# Altium integrated library Xilinx Virtex-E.IntLib: 288 symbols (part 51 of 73)
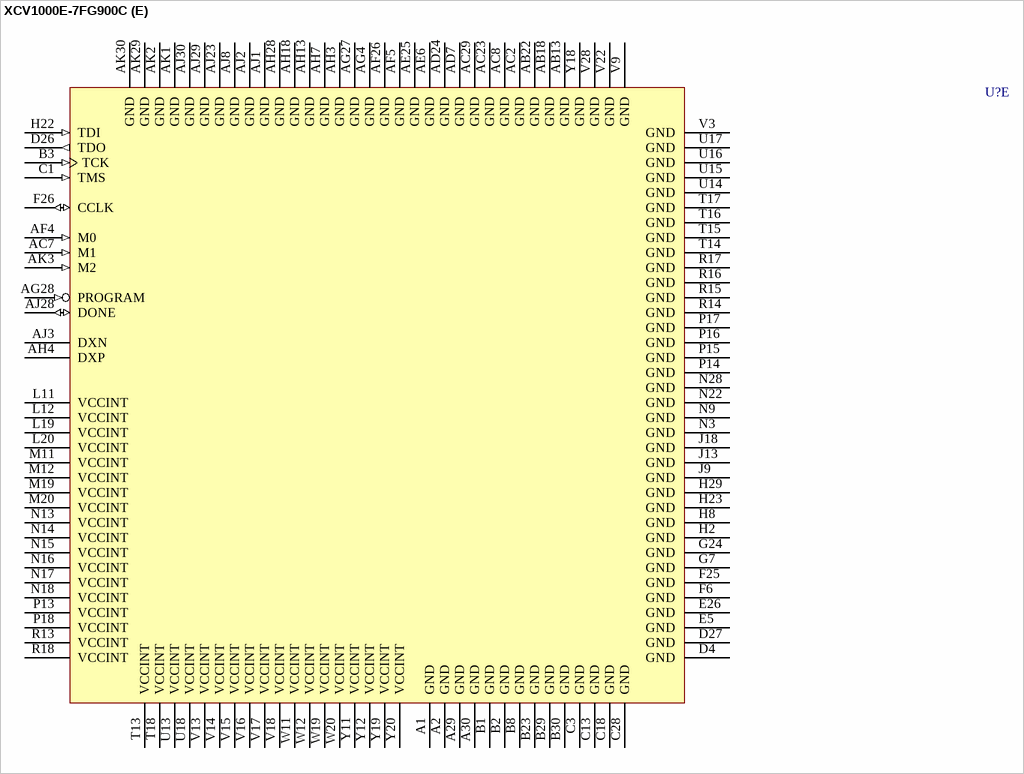
[diagram p439: symbol XCV1000E-7FG900C]

## XCV1000E-7FG900C
designator U?
Virtex-E 1.8V FPGA, 900-Ball FBGA, Commercial Grade; PackageDocument: ver1.1, Apr-2001; Note: Solder pads are defined by the copper, i.e. non-soldermask defined (NSMD); Published: 19-Sep-2001; LatestRevisionDate: 17-Jul-2002; LatestRevisionNote: Re-released for DXP Platform.; DatasheetDocument: Mar-2003; PackageReference: FG900; Publisher: Altium Limited; Code_IPC: PBGA 31X31 FE900
footprint FG900 (900-Ball Fine Pitch Ball Grid Array (FG900))
3D model XCV1000E-FG900 (900-Ball Fine Pitch Ball Grid Array (FG900))
signal-integrity model XCV1000E_FG900 (Virtex-E)
part A pins: A3 IO_VREF_L2N_Y (io), A4 IO_L4N_YY (io), A5 IO_L6N_Y (io), A6 IO_VREF_L9N_YY (io), A7 IO (io), A8 IO_VREF_L13N_YY (io), A9 IO_VREF_L16P (io), A10 IO_VREF_L23N_YY (io), A11 IO_L24P_Y (io), A12 IO_L26N_YY (io), A13 IO (io), A14 IO_L30N_YY (io), A15 IO_LVDS_DLL_L34N (io), A16 IO_L36N_YY (io), A17 IO_L39N_Y (io), A18 IO_VREF_L41P_YY (io), A19 IO_L42P_YY (io), A20 IO_L47P_Y (io), A21 IO_L51P_YY (io), A22 IO_VREF_L52P_YY (io), A23 IO_L57P_Y (io), A24 IO_L58N_Y (io), A25 IO (io), A26 IO_L62P_Y (io), A27 IO_L67N_Y (io), A28 IO_L68P_YY (io), B4 IO_L3N_Y (io), B5 IO_L5P_YY (io), B6 VCCO_0 (power), B7 IO_L10P_Y (io), B9 IO_L15N_YY (io), B10 IO_L17P (io), B11 IO_L21N_Y (io), B12 IO_L25P_Y (io), B13 IO_L27P_YY (io), B14 IO_L29P_Y (io), B15 IO_L32N (io), B16 IO_L35N_YY (io), B17 IO (io), B18 IO (io), B19 IO_L43N_Y (io), B20 IO_L46N_YY (io), B21 IO_L50N_YY (io), B22 IO_L53P_YY (io), B24 IO_VREF_L59P_YY (io), B25 VCCO_1 (power), B26 IO_L63N_YY (io), B27 IO_L66N_Y (io), B28 IO_L68N_YY (io), C4 IO_L0N_YY (io), C5 IO (io), C6 IO (io), C7 IO_L10N_Y (io), C8 IO_L11N_Y (io), C9 IO_L14P (io), C10 IO_L18P_YY (io), C11 IO_L22P_YY (io), C12 VCCO_0 (power), C14 IO (io), C15 GCK3 (in), C16 IO_L37N_YY (io), C17 IO_L40P_Y (io), C19 VCCO_1 (power), C20 IO_L48P_Y (io), C21 IO_L52N_YY (io), C22 IO_VREF_L55P_YY (io), C23 IO (io), C24 IO_L59N_YY (io), C25 IO_L61P_Y (io), C26 IO_L65N_Y (io), C27 IO_CS_L69P_YY (io), D5 IO_L1N_Y (io), D6 IO_L4P_YY (io), D7 IO_L7N_Y (io), D8 NC, D9 IO_L14N (io), D10 IO (io), D11 IO_L20P_Y (io), D12 IO_L23P_YY (io), D13 IO (io), D14 IO_L29N_Y (io), D15 IO_L33P_YY (io), D16 IO (io), D17 NC, D18 IO_L42N_YY (io), D19 IO_L44N_Y (io), D20 IO_L47N_Y (io), D21 IO_L50P_YY (io), D22 IO_L54P_YY (io), D23 IO (io), D24 IO_L62N_Y (io), D25 IO_L64N_YY (io), E6 IO (io), E7 IO_VREF_L5N_YY (io), E8 IO_L8P_YY (io), E9 NC, E10 IO_L16N (io), E11 IO_L20N_Y (io), E12 IO_L24N_Y (io), E13 IO_L28P_Y (io), E14 NC, E15 GCK2 (in), E16 IO_LVDS_DLL_L34P (io), E17 IO_L39P_Y (io), E18 IO_L41N_YY (io), E19 IO (io), E20 IO_L49P_Y (io), E21 IO_L54N_YY (io), E22 IO_L56P_YY (io), E23 IO_L61N_Y (io), E24 NC, F7 IO_L0P_YY (io), F8 IO_L6P_Y (io), F9 IO (io), F10 IO_L12P_YY (io), F11 IO_L19P_Y (io), F12 IO_L22N_YY (io), F13 IO_VREF_L27N_YY (io), F14 NC, F15 IO_L33N_YY (io), F16 IO_L35P_YY (io), F17 IO_L40N_Y (io), F18 IO_L45N_YY (io), F19 IO_VREF_L45P_YY (io), F20 IO_L51N_YY (io), F21 IO_L55N_YY (io), F22 IO (io), F23 IO_L65P_Y (io), F24 IO_L67P_Y (io), G8 IO_L1P_Y (io), G9 IO_L8N_YY (io), G10 IO_L12N_YY (io), G11 IO_L17N (io), G12 IO_L21P_Y (io), G13 IO_L25N_Y (io), G14 IO_L28N_Y (io), G15 IO (io), G16 IO_L38P_YY (io), G17 NC, G18 IO_L43P_Y (io), G19 IO_L48N_Y (io), G20 IO (io), G21 IO_L57N_Y (io), G22 IO_L60P_YY (io), G23 IO_VREF_L66P_Y (io), H9 IO_L2P_Y (io), H10 IO_L11P_Y (io), H11 IO_L13P_YY (io), H12 IO_L18N_YY (io), H13 IO_L19N_Y (io), H14 VCCO_0 (power), H15 IO_L32P (io), H16 IO_L36P_YY (io), H17 VCCO_1 (power), H18 IO_L44P_Y (io), H19 IO_L53N_YY (io), H20 IO_L56N_YY (io), H21 IO_L60N_YY (io), J10 IO_L3P_Y (io), J11 IO_L9P_YY (io), J12 IO_L15P_YY (io), J14 IO_L30P_YY (io), J15 IO_L31P_YY (io), J16 IO (io), J17 IO (io), J19 NC, J20 NC, J21 IO_L64P_YY (io), K11 NC, K12 IO (io), K13 IO_L26P_YY (io), K14 IO_VREF_L31N_YY (io), K15 IO_VREF_L37P_YY (io), K16 IO_L38N_YY (io), K17 IO_L46P_YY (io), K18 IO_L49N_Y (io), K19 IO_L58P_Y (io), K20 IO_VREF_L63P_YY (io), K21 IO_WRITE_L69N_YY (io), L13 IO (io), L14 VCCO_0 (power), L15 VCCO_0 (power), L16 VCCO_1 (power), L17 VCCO_1 (power), L18 IO (io), M13 VCCO_0 (power), M14 VCCO_0 (power), M15 VCCO_0 (power), M16 VCCO_1 (power), M17 VCCO_1 (power), M18 VCCO_1 (power), N11 IO_L7P_Y (io)
part B pins: AA22 IO_INIT_L141N_YY (io), AA23 IO (io), AA24 IO_L129N (io), AA25 IO_L128N_YY (io), AA26 IO (io), AA27 IO_L125N_YY (io), AA28 IO_VREF_L124N_YY (io), AA29 IO_L121P (io), AA30 IO_L120P_YY (io), AB23 IO_L136P_YY (io), AB24 IO_VREF_L135N (io), AB25 IO_L132N (io), AB26 IO_L130P_YY (io), AB27 IO (io), AB28 IO_VREF_L127N_YY (io), AB29 IO (io), AB30 IO_D5_L123N_YY (io), AC24 IO_L139N (io), AC25 IO_L137N_Y (io), AC26 IO_L133P_YY (io), AC27 IO_VREF_L131N_YY (io), AC28 NC, AC30 IO_L128P_YY (io), AD25 IO_L140N (io), AD26 IO (io), AD27 IO_L134P_YY (io), AD28 IO_L132P (io), AD29 NC, AD30 IO_L130N_YY (io), AE26 IO_L138P_YY (io), AE27 NC, AE28 IO_L136N_YY (io), AE29 VCCO_3 (power), AE30 IO_L133N_YY (io), AF28 IO_L140P (io), AF29 IO_L135P (io), AF30 IO_L134N_YY (io), AG29 IO_VREF_L138N_YY (io), AG30 IO_L137P_Y (io), AH29 IO_D7_L141P_YY (io), AH30 IO_L139P (io), C29 IO_L71P (io), C30 IO_L73N_YY (io), D28 IO_L71N (io), D29 NC, D30 IO_L75P_YY (io), E25 IO_L72N_Y (io), E27 IO_DIN_D0_L70N_YY (io), E28 IO_VREF_L73P_YY (io), E29 IO_L78N_YY (io), E30 IO_L77N_YY (io), F27 IO_L74N_Y (io), F28 IO_L76N_Y (io), F29 VCCO_2 (power), F30 IO_VREF_L80P_YY (io), G25 IO_L72P_Y (io), G26 IO (io), G27 IO_L78P_YY (io), G28 IO_L77P_YY (io), G29 IO_L81N_YY (io), G30 IO_L82P (io), H24 IO (io), H25 IO (io), H26 IO_L79N (io), H27 IO_L81P_YY (io), H28 NC, H30 IO_VREF_L84P_YY (io), J22 IO_DOUT_BUSY_L70P_YY (io), J23 IO_L75N_YY (io), J24 IO_L83P_YY (io), J25 IO (io), J26 IO_L83N_YY (io), J27 NC, J28 IO_L85N_YY (io), J29 IO_L86P_YY (io), J30 IO_VREF_L87N_YY (io), K22 IO_L74P_Y (io), K23 IO_L79P (io), K24 IO_L86N_YY (io), K25 IO_L90N (io), K26 IO_L85P_YY (io), K27 IO_L87P_YY (io), K28 IO_L89P_YY (io), K29 IO_D2_L88N (io), K30 IO (io), L21 IO_VREF_L76P_Y (io), L22 IO_L80N_YY (io), L23 IO_L84N_YY (io), L24 IO_L91P_YY (io), L25 IO_L89N_YY (io), L26 IO_L93P_YY (io), L27 IO_L91N_YY (io), L28 IO_L93N_YY (io), L29 IO_L92P_Y (io), L30 IO_VREF_L94P (io), M21 IO_L82N (io), M22 IO_D1_L88P (io), M23 IO_L92N_Y (io), M24 IO (io), M25 IO (io), M26 IO_L95P_YY (io), M27 IO_L94N (io), M28 VCCO_2 (power), M29 IO_L95N_YY (io), M30 IO_L96N_YY (io), N19 VCCO_2 (power), N20 IO (io), N21 IO_L90P (io), N23 IO (io), N24 IO_L100N (io), N25 IO_L97P (io), N26 IO_L99P_YY (io), N27 IO_L97N (io), N29 IO_L96P_YY (io), N30 IO_VREF_L98P_YY (io), P19 VCCO_2 (power), P20 VCCO_2 (power), P21 IO_D3_L98N_YY (io), P22 IO_L101P_YY (io), P23 VCCO_2 (power), P24 IO_L105P_YY (io), P25 IO_VREF_L102P_YY (io), P26 NC, P27 NC, P28 IO_L99N_YY (io), P29 IO_L100P (io), P30 IO (io), R19 VCCO_2 (power), R20 VCCO_2 (power), R21 IO_L103P_YY (io), R22 IO_L107P_YY (io), R23 IO_L108P_YY (io), R24 IO_L106P (io), R25 IO_L104P_YY (io), R26 IO_L101N_YY (io), R27 IO_L105N_YY (io), R28 IO_L103N_YY (io), R29 IO_L102N_YY (io), R30 IO (io), T19 VCCO_3 (power), T20 VCCO_3 (power), T21 IO_L109P_YY (io), T22 IO (io), T23 IO_L111P (io), T24 IO (io), T25 IO_VREF_L109N_YY (io), T26 IO (io), T27 IO_L107N_YY (io), T28 IO_L108N_YY (io), T29 IO (io), T30 IO_L104N_YY (io), U19 VCCO_3 (power), U20 VCCO_3 (power), U21 IO_L115P_YY (io), U22 IO_L114N (io), U23 VCCO_3 (power), U24 IO_D4_L113P_YY (io), U25 IO_L112P_YY (io), U26 NC, U27 IO_L111N (io), U28 IO_L110P_YY (io), U29 IO_L106N (io), U30 IO_L110N_YY (io), V19 VCCO_3 (power), V20 IO_L121N (io), V21 IO_D6_L124P_YY (io), V23 IO (io), V24 IO_L119P_Y (io), V25 IO (io), V26 IO_L116P_YY (io), V27 IO_L112N_YY (io), V29 IO_VREF_L113N_YY (io), V30 NC, W21 IO_L129P (io), W22 IO_L126P_YY (io), W23 IO_L122N (io), W24 IO_L120N_YY (io), W25 IO_L118P_YY (io), W26 IO_L117P (io), W27 IO_L116N_YY (io), W28 VCCO_3 (power), W29 IO_L115N_YY (io), W30 IO_L114P (io), Y21 IO (io), Y22 IO_L131P_YY (io), Y23 IO_L126N_YY (io), Y24 IO_L127P_YY (io), Y25 IO_L125P_YY (io), Y26 IO_L123P_YY (io), Y27 IO_L122P (io), Y28 IO_L119N_Y (io), Y29 IO_VREF_L117N (io), Y30 IO_L118N_YY (io)
part C pins: AA11 IO (io), AA12 IO_L188P_YY (io), AA13 IO_L187N (io), AA14 IO (io), AA15 IO_L180P_YY (io), AA16 IO_L169P_YY (io), AA17 IO_L169N_YY (io), AA18 IO_VREF_L159N (io), AA19 IO_L158P_YY (io), AA20 IO_L149P (io), AA21 IO_L147P_YY (io), AB10 IO_L207P_YY (io), AB11 IO_L200N (io), AB12 IO_L189P_YY (io), AB14 IO_L182P (io), AB15 IO_L179P_YY (io), AB16 IO_L170N_YY (io), AB17 IO_L167N (io), AB19 IO (io), AB20 IO_L153N (io), AB21 IO_VREF_L145P (io), AC9 IO_L209P (io), AC10 IO_L205N (io), AC11 IO_L201P (io), AC12 IO_VREF_L195N_YY (io), AC13 IO_L187P (io), AC14 VCCO_5 (power), AC15 IO_L178P_YY (io), AC16 IO (io), AC17 VCCO_4 (power), AC18 IO_L164P (io), AC19 IO (io), AC20 IO_L154P (io), AC21 IO_L150P (io), AC22 IO_L146P (io), AD8 IO_L208P (io), AD9 IO_L206P_YY (io), AD10 IO_L204N (io), AD11 IO_L196N_YY (io), AD12 IO_L194P_YY (io), AD13 IO_L185N_YY (io), AD14 IO (io), AD15 IO_L175P (io), AD16 IO_L172N (io), AD17 IO_L168N (io), AD18 IO (io), AD19 IO_L161N_YY (io), AD20 IO_L157N (io), AD21 IO (io), AD22 IO_L148N_YY (io), AD23 IO_L144P (io), AE7 NC, AE8 NC, AE9 IO_L197N_YY (io), AE10 IO (io), AE11 IO_L189N_YY (io), AE12 IO_L193P_YY (io), AE13 IO_L186P (io), AE14 IO_L184P_YY (io), AE15 IO (io), AE16 IO_L173P_YY (io), AE17 IO_L173N_YY (io), AE18 IO (io), AE19 IO_L165N_YY (io), AE20 IO_L162P (io), AE21 IO (io), AE22 IO_L155N_YY (io), AE23 IO_L153P (io), AE24 NC, AF6 IO (io), AF7 IO_VREF_L202N_YY (io), AF8 IO_L200P (io), AF9 IO_VREF_L198N_YY (io), AF10 IO (io), AF11 IO_L191N (io), AF12 IO_L186N (io), AF13 IO_L182N (io), AF14 IO_VREF_L180N_YY (io), AF15 IO_L179N_YY (io), AF16 IO_LVDS_DLL_L177P (io), AF17 NC, AF18 NC, AF19 IO_L164N (io), AF20 IO_L163N (io), AF21 IO_L158N_YY (io), AF22 IO_L155P_YY (io), AF23 IO_L152N_YY (io), AF24 IO_L150N (io), AF25 IO_L145N (io), AF27 IO_L142P_YY (io), AG3 IO_L211N_YY (io), AG5 IO_L210P (io), AG6 IO_VREF_L206N_YY (io), AG7 IO_L203P_YY (io), AG8 IO_L201N (io), AG9 IO (io), AG10 IO_L193N_YY (io), AG11 IO_L191P (io), AG12 IO (io), AG13 IO_VREF_L184N_YY (io), AG14 NC, AG15 IO_L178N_YY (io), AG16 IO_L176P_YY (io), AG17 IO_VREF_L174P_YY (io), AG18 IO_L171P (io), AG19 IO_L167P (io), AG20 IO_L163P (io), AG21 IO_L160P (io), AG22 IO_L156N_YY (io), AG23 IO_L154N (io), AG24 IO_L151P_YY (io), AG25 IO_L147N_YY (io), AG26 IO_L143P_YY (io), AH5 IO_L211P_YY (io), AH6 IO_L205P (io), AH8 IO (io), AH9 IO_L199P_YY (io), AH10 IO_L198P_YY (io), AH11 IO_L192P (io), AH12 VCCO_5 (power), AH14 IO_L183P (io), AH15 IO_L181P_YY (io), AH16 IO_LVDS_DLL_L177N (io), AH17 IO_L175N (io), AH19 VCCO_4 (power), AH20 IO_L166N_YY (io), AH21 IO_L161P_YY (io), AH22 IO_L159P (io), AH23 IO (io), AH24 NC, AH25 IO_L149N (io), AH26 IO_L146N (io), AH27 IO_L143N_YY (io), AJ4 IO_VREF_L209N (io), AJ5 IO_L207N_YY (io), AJ6 VCCO_5 (power), AJ7 IO_L204P (io), AJ9 IO_L197P_YY (io), AJ10 IO_L195P_YY (io), AJ11 IO_L192N (io), AJ12 IO_VREF_L188N_YY (io), AJ13 IO (io), AJ14 IO_L183N (io), AJ15 IO (io), AJ16 GCK0 (in), AJ17 IO_L174N_YY (io), AJ18 IO (io), AJ19 IO_L168P (io), AJ20 IO_L165P_YY (io), AJ21 IO_L162N (io), AJ22 IO_VREF_L156P_YY (io), AJ24 IO_VREF_L152P_YY (io), AJ25 VCCO_4 (power), AJ26 IO_VREF_L148P_YY (io), AJ27 IO_L144N (io), AK4 IO_L210N (io), AK5 IO_L208N (io), AK6 NC, AK7 IO_L203N_YY (io), AK8 IO_L202P_YY (io), AK9 IO_L199N_YY (io), AK10 IO_L196P_YY (io), AK11 IO_L194N_YY (io), AK12 IO_L190P (io), AK13 IO_L185P_YY (io), AK14 NC, AK15 IO_L181N_YY (io), AK16 GCK1 (in), AK17 IO_L176N_YY (io), AK18 IO (io), AK19 IO_L172P (io), AK20 IO_L171N (io), AK21 IO_VREF_L170P_YY (io), AK22 IO_VREF_L166P_YY (io), AK23 IO_L160N (io), AK24 IO_L157P (io), AK25 NC, AK26 IO_L151N_YY (io), AK27 IO (io), AK28 IO_L142N_YY (io), W13 VCCO_5 (power), W14 VCCO_5 (power), W15 VCCO_5 (power), W16 VCCO_4 (power), W17 VCCO_4 (power), W18 VCCO_4 (power), Y13 IO_L190N (io), Y14 VCCO_5 (power), Y15 VCCO_5 (power), Y16 VCCO_4 (power), Y17 VCCO_4 (power)
part D pins: AA1 IO_L234N_Y (io), AA2 IO_L231N_YY (io), AA3 IO_L230P (io), AA4 IO (io), AA5 IO_L227N_YY (io), AA6 IO_L232P (io), AA7 IO_L221P (io), AA8 IO_L221N (io), AA9 IO_VREF_L218N (io), AA10 IO_L217P_YY (io), AB1 IO_L228N_YY (io), AB2 IO_VREF_L240N_YY (io), AB3 IO_VREF_L226N_YY (io), AB4 IO_L225P_YY (io), AB5 NC, AB6 IO_L223N_YY (io), AB7 IO (io), AB8 IO_L216N_Y (io), AB9 IO_L214N (io), AC1 IO_VREF_L229P_YY (io), AC3 NC, AC4 IO_L223P_YY (io), AC5 IO (io), AC6 IO_L212P_YY (io), AD1 IO (io), AD2 IO_L219P_YY (io), AD3 IO_L220N_YY (io), AD4 IO_L218P (io), AD5 IO_L219N_YY (io), AD6 IO_L216P_Y (io), AE1 IO_L224N (io), AE2 VCCO_6 (power), AE3 IO_VREF_L215N_YY (io), AE4 IO_L214P (io), AE5 NC, AF1 IO_VREF_L222N_YY (io), AF2 IO_L220P_YY (io), AF3 IO_L212N_YY (io), AG1 IO_L217N_YY (io), AG2 IO_L213P (io), AH1 IO_L215P_YY (io), AH2 IO_L213N (io), C2 IO_VREF_L280P_YY (io), D1 IO_L279N_Y (io), D2 IO_L281N (io), D3 IO_L282N_YY (io), E1 IO_L275P_YY (io), E2 IO_L276P_YY (io), E3 IO (io), E4 IO_L277N (io), F1 IO (io), F2 VCCO_7 (power), F3 IO_L274N (io), F4 IO_L278P_YY (io), F5 IO_L281P (io), G1 NC, G2 IO_L272P_YY (io), G3 IO_L275N_YY (io), G4 NC, G5 IO_VREF_L273P_YY (io), G6 IO_L280N_YY (io), H1 IO_L270N_YY (io), H3 NC, H4 IO_VREF_L269P_YY (io), H5 IO_L272N_YY (io), H6 IO_L276N_YY (io), H7 IO_L279P_Y (io), J1 IO (io), J2 IO_L271P (io), J3 IO (io), J4 IO (io), J5 IO_L268P_YY (io), J6 IO (io), J7 IO_L271N (io), J8 IO_L278N_YY (io), K1 IO_L265P_YY (io), K2 IO_L263N (io), K3 IO_VREF_L266P_YY (io), K4 IO_L267P_YY (io), K5 IO_L265N_YY (io), K6 IO_L269N_YY (io), K7 IO_L270P_YY (io), K8 IO_L274P (io), K9 IO_VREF_L277P (io), K10 IO_L282P_YY (io), L1 IO_L262N_YY (io), L2 IO_L260P_YY (io), L3 IO_L264N (io), L4 IO_L260N_YY (io), L5 IO_L261P_Y (io), L6 IO_L266N_YY (io), L7 IO_L267N_YY (io), L8 IO_L268N_YY (io), L9 IO_L273N_YY (io), L10 IO (io), M1 IO_VREF_L259P (io), M2 IO_L259N (io), M3 VCCO_7 (power), M4 IO_L258N_YY (io), M5 IO_L258P_YY (io), M6 IO_L256N (io), M7 IO_L261N_Y (io), M8 IO_L262P_YY (io), M9 IO_L263P (io), M10 IO_L264P (io), N1 IO_L257P_YY (io), N2 IO (io), N4 IO_L254N_YY (io), N5 IO_L257N_YY (io), N6 IO_L256P (io), N7 IO_L255N_YY (io), N8 IO (io), N10 IO (io), N12 VCCO_7 (power), P1 IO_VREF_L255P_YY (io), P2 IO_L252P_YY (io), P3 NC, P4 IO_L253P (io), P5 IO_L252N_YY (io), P6 IO_VREF_L251P_YY (io), P7 IO_L253N (io), P8 VCCO_7 (power), P9 IO (io), P10 IO_L251N_YY (io), P11 VCCO_7 (power), P12 VCCO_7 (power), R1 NC, R2 IO_L254P_YY (io), R3 IO_L250P_YY (io), R4 IO_L249P_YY (io), R5 IO_L248N_YY (io), R6 IO_L248P_YY (io), R7 IO_L250N_YY (io), R8 IO_L249N_YY (io), R9 IO_L245N_YY (io), R10 IO_L247P (io), R11 VCCO_7 (power), R12 VCCO_7 (power), T1 IO_L247N (io), T2 IO (io), T3 IO (io), T4 IO_L246N_YY (io), T5 IO_VREF_L244N_YY (io), T6 IO_L245P_YY (io), T7 IO_L243N_YY (io), T8 IO_L240P_YY (io), T9 IO_L242P (io), T10 IO (io), T11 VCCO_6 (power), T12 VCCO_6 (power), U1 IO (io), U2 IO_L246P_YY (io), U3 IO_L243P_YY (io), U4 NC, U5 IO_L241N_YY (io), U6 IO (io), U7 IO (io), U8 VCCO_6 (power), U9 IO_L239N (io), U10 IO_L231P_YY (io), U11 VCCO_6 (power), U12 VCCO_6 (power), V1 IO (io), V2 IO_L244P_YY (io), V4 IO_L239P (io), V5 NC, V6 IO_L238N_YY (io), V7 IO_L234P_Y (io), V8 IO (io), V10 IO_L228P_YY (io), V11 IO_L230N (io), V12 VCCO_6 (power), W1 IO_L241P_YY (io), W2 IO_L238P_YY (io), W3 VCCO_6 (power), W4 IO_L237N_YY (io), W5 IO_L236P (io), W6 IO_L237P_YY (io), W7 IO_L232N (io), W8 IO_L224P (io), W9 IO_L226P_YY (io), W10 IO_L227P_YY (io), Y1 IO_L242N (io), Y2 IO_L235P_YY (io), Y3 IO_L235N_YY (io), Y4 IO_L233P_YY (io), Y5 IO_VREF_L236N (io), Y6 IO_L233N_YY (io), Y7 IO_L229N_YY (io), Y8 IO_L225N_YY (io), Y9 IO_L222P_YY (io), Y10 IO (io)
part E pins: A1 GND (power), A2 GND (power), A29 GND (power), A30 GND (power), AB13 GND (power), AB18 GND (power), AB22 GND (power), AC2 GND (power), AC7 M1 (in), AC8 GND (power), AC23 GND (power), AC29 GND (power), AD7 GND (power), AD24 GND (power), AE6 GND (power), AE25 GND (power), AF4 M0 (in), AF5 GND (power), AF26 GND (power), AG4 GND (power), AG27 GND (power), AG28 PROGRAM (in), AH3 GND (power), AH4 DXP, AH7 GND (power), AH13 GND (power), AH18 GND (power), AH28 GND (power), AJ1 GND (power), AJ2 GND (power), AJ3 DXN, AJ8 GND (power), AJ23 GND (power), AJ28 DONE (io), AJ29 GND (power), AJ30 GND (power), AK1 GND (power), AK2 GND (power), AK3 M2 (in), AK29 GND (power), AK30 GND (power), B1 GND (power), B2 GND (power), B3 TCK (in), B8 GND (power), B23 GND (power), B29 GND (power), B30 GND (power), C1 TMS (in), C3 GND (power), C13 GND (power), C18 GND (power), C28 GND (power), D4 GND (power), D26 TDO (out), D27 GND (power), E5 GND (power), E26 GND (power), F6 GND (power), F25 GND (power), F26 CCLK (io), G7 GND (power), G24 GND (power), H2 GND (power), H8 GND (power), H22 TDI (in), H23 GND (power), H29 GND (power), J9 GND (power), J13 GND (power), J18 GND (power), L11 VCCINT (power), L12 VCCINT (power), L19 VCCINT (power), L20 VCCINT (power), M11 VCCINT (power), M12 VCCINT (power), M19 VCCINT (power), M20 VCCINT (power), N3 GND (power), N9 GND (power), N13 VCCINT (power), N14 VCCINT (power), N15 VCCINT (power), N16 VCCINT (power), N17 VCCINT (power), N18 VCCINT (power), N22 GND (power), N28 GND (power), P13 VCCINT (power), P14 GND (power), P15 GND (power), P16 GND (power), P17 GND (power), P18 VCCINT (power), R13 VCCINT (power), R14 GND (power), R15 GND (power), R16 GND (power), R17 GND (power), R18 VCCINT (power), T13 VCCINT (power), T14 GND (power), T15 GND (power), T16 GND (power), T17 GND (power), T18 VCCINT (power), U13 VCCINT (power), U14 GND (power), U15 GND (power), U16 GND (power), U17 GND (power), U18 VCCINT (power), V3 GND (power), V9 GND (power), V13 VCCINT (power), V14 VCCINT (power), V15 VCCINT (power), V16 VCCINT (power), V17 VCCINT (power), V18 VCCINT (power), V22 GND (power), V28 GND (power), W11 VCCINT (power), W12 VCCINT (power), W19 VCCINT (power), W20 VCCINT (power), Y11 VCCINT (power), Y12 VCCINT (power), Y18 GND (power), Y19 VCCINT (power), Y20 VCCINT (power)
part A text: BANK 0; BANK 1
part B text: BANK 2; BANK 3
part C text: BANK 4; BANK 5
part D text: BANK 6; BANK 7

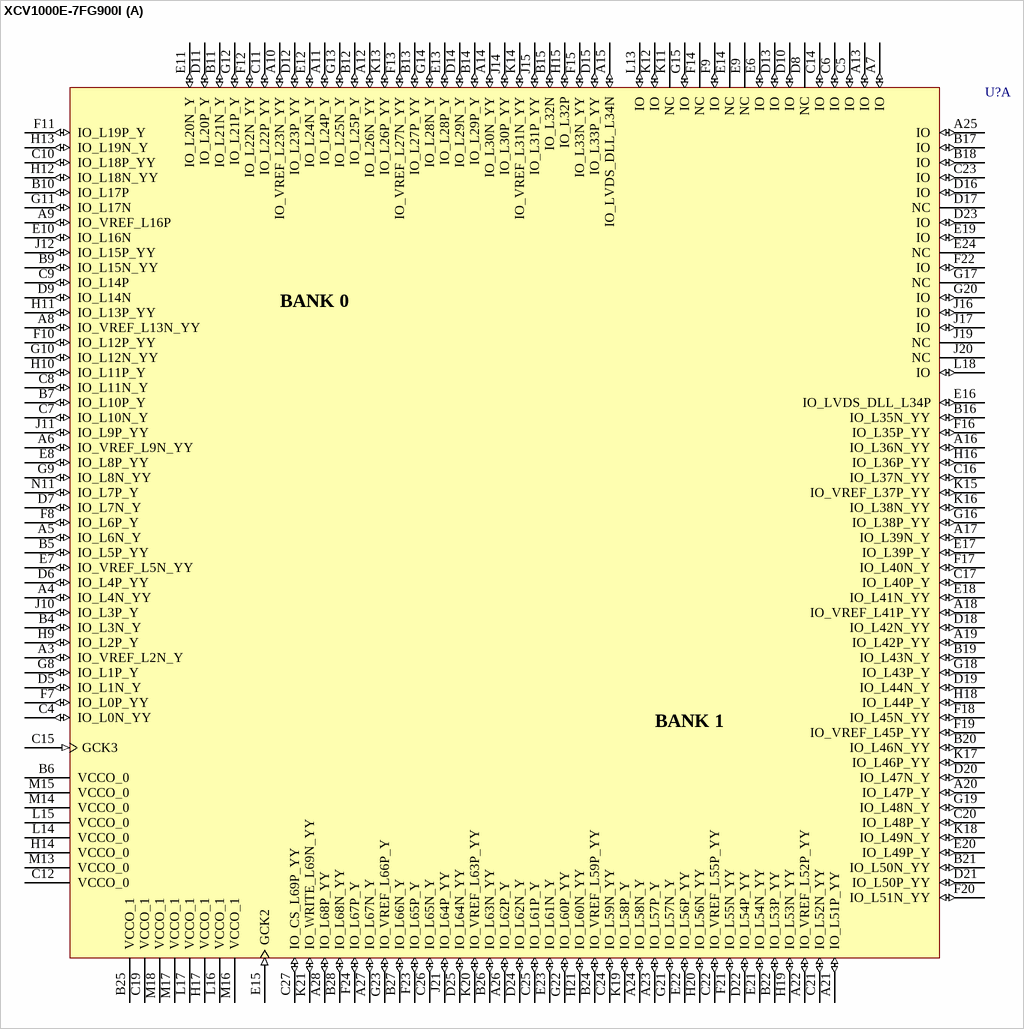
[diagram p380: symbol XCV1000E-7FG900I]

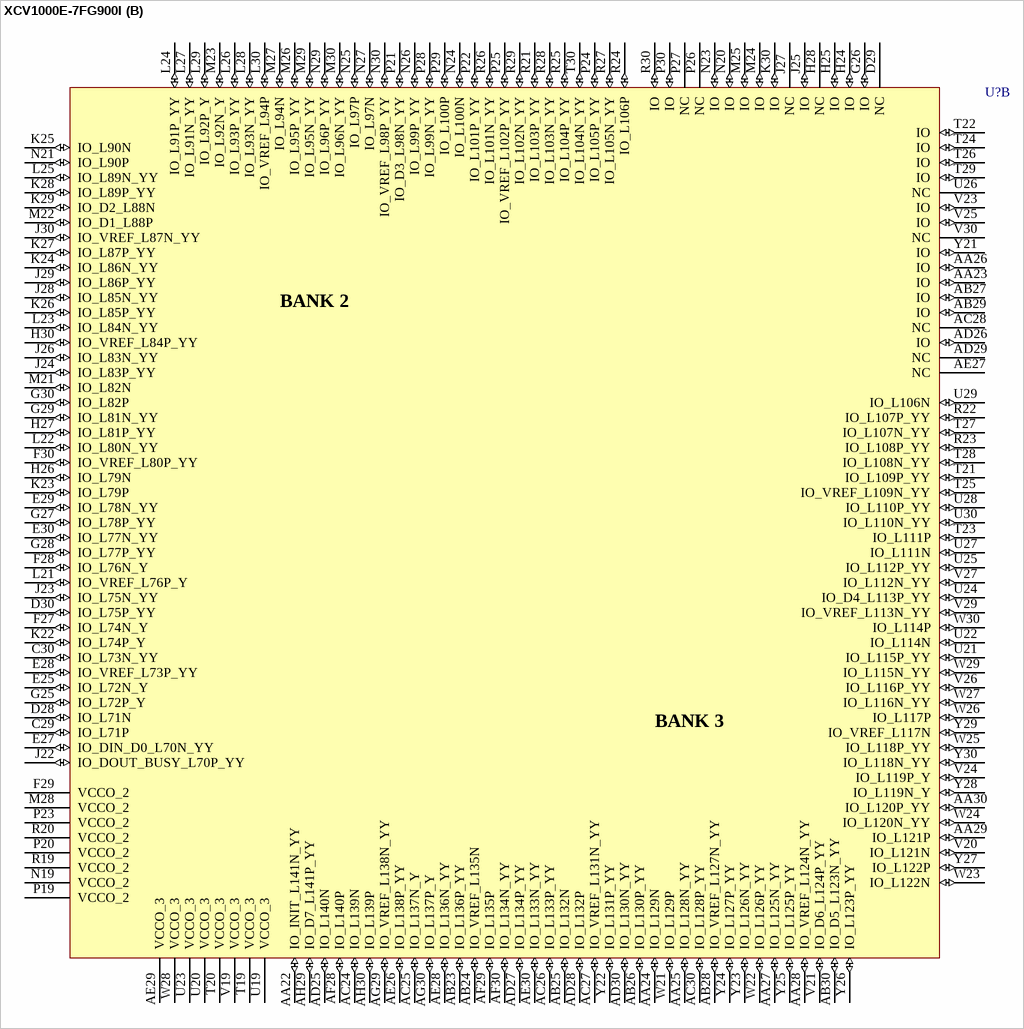
[diagram p381: symbol XCV1000E-7FG900I]

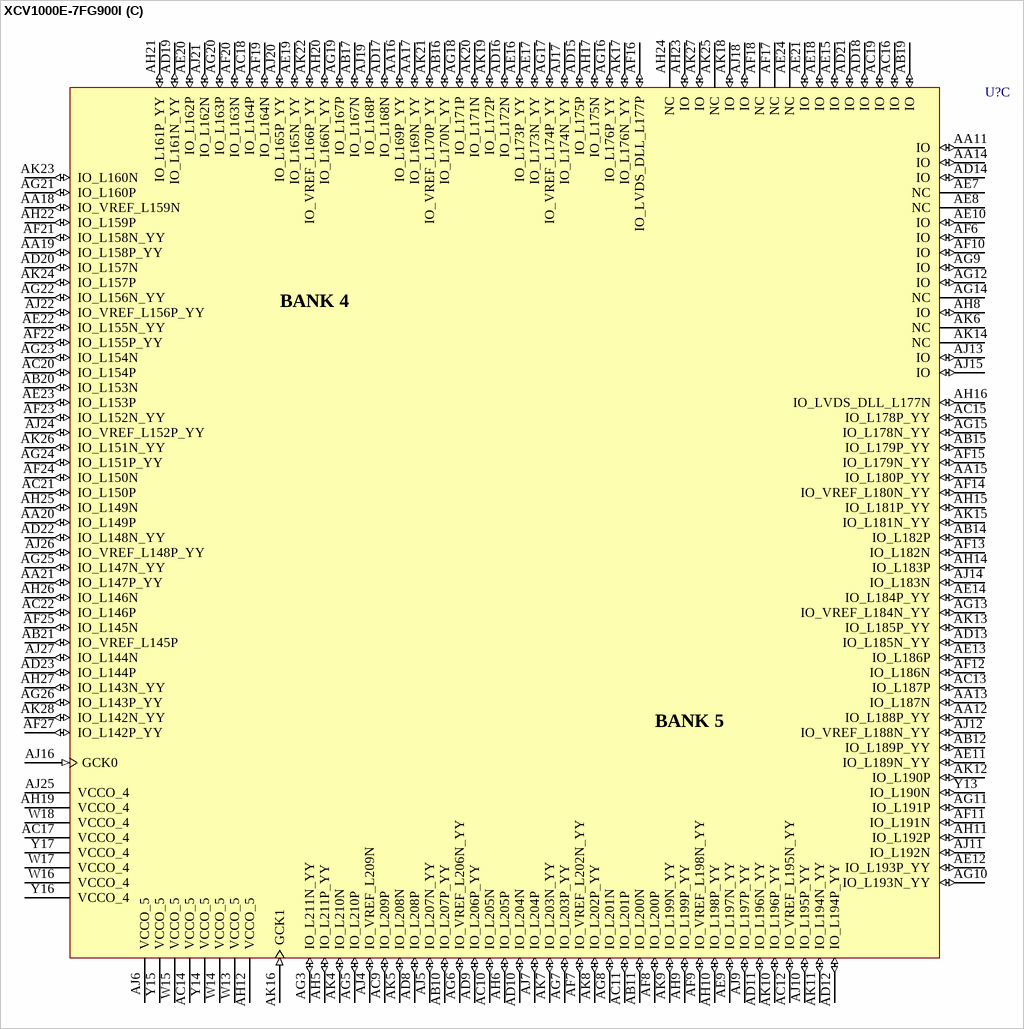
[diagram p382: symbol XCV1000E-7FG900I]

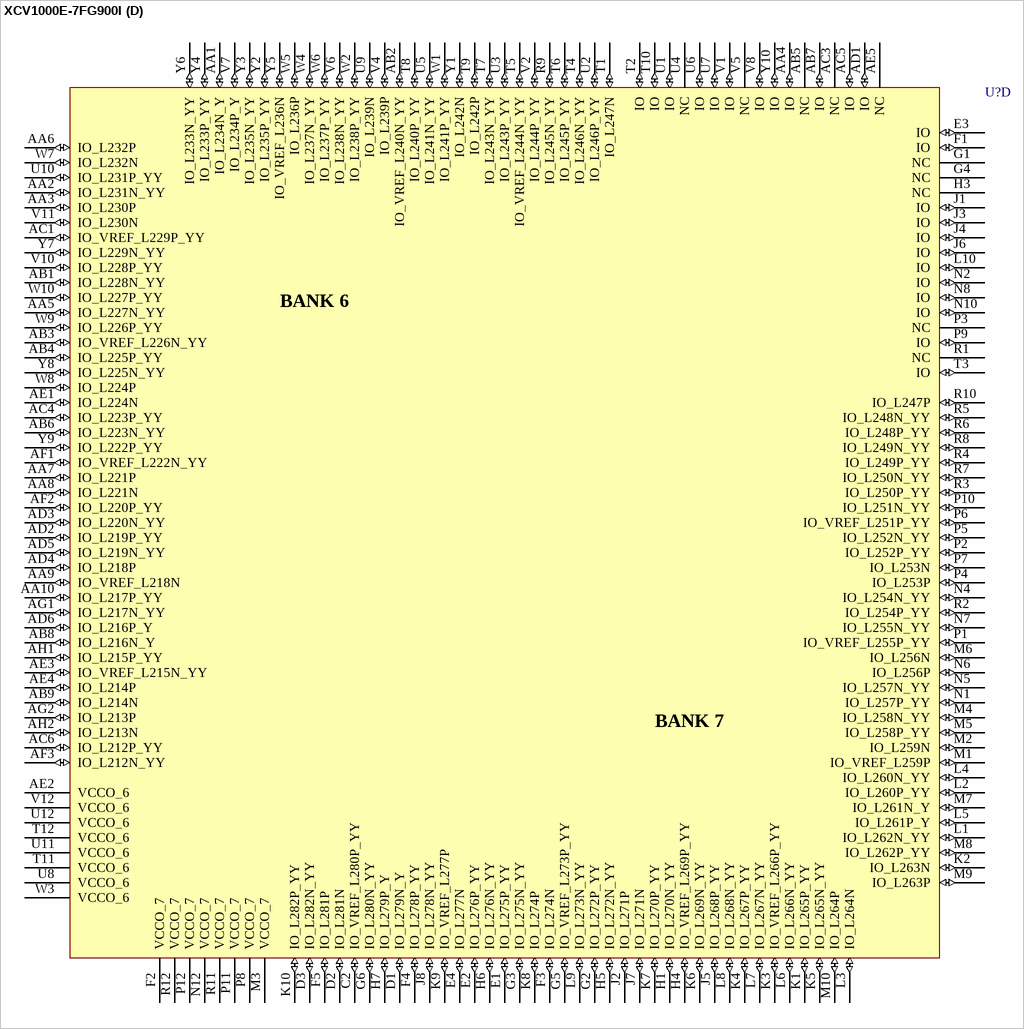
[diagram p383: symbol XCV1000E-7FG900I]

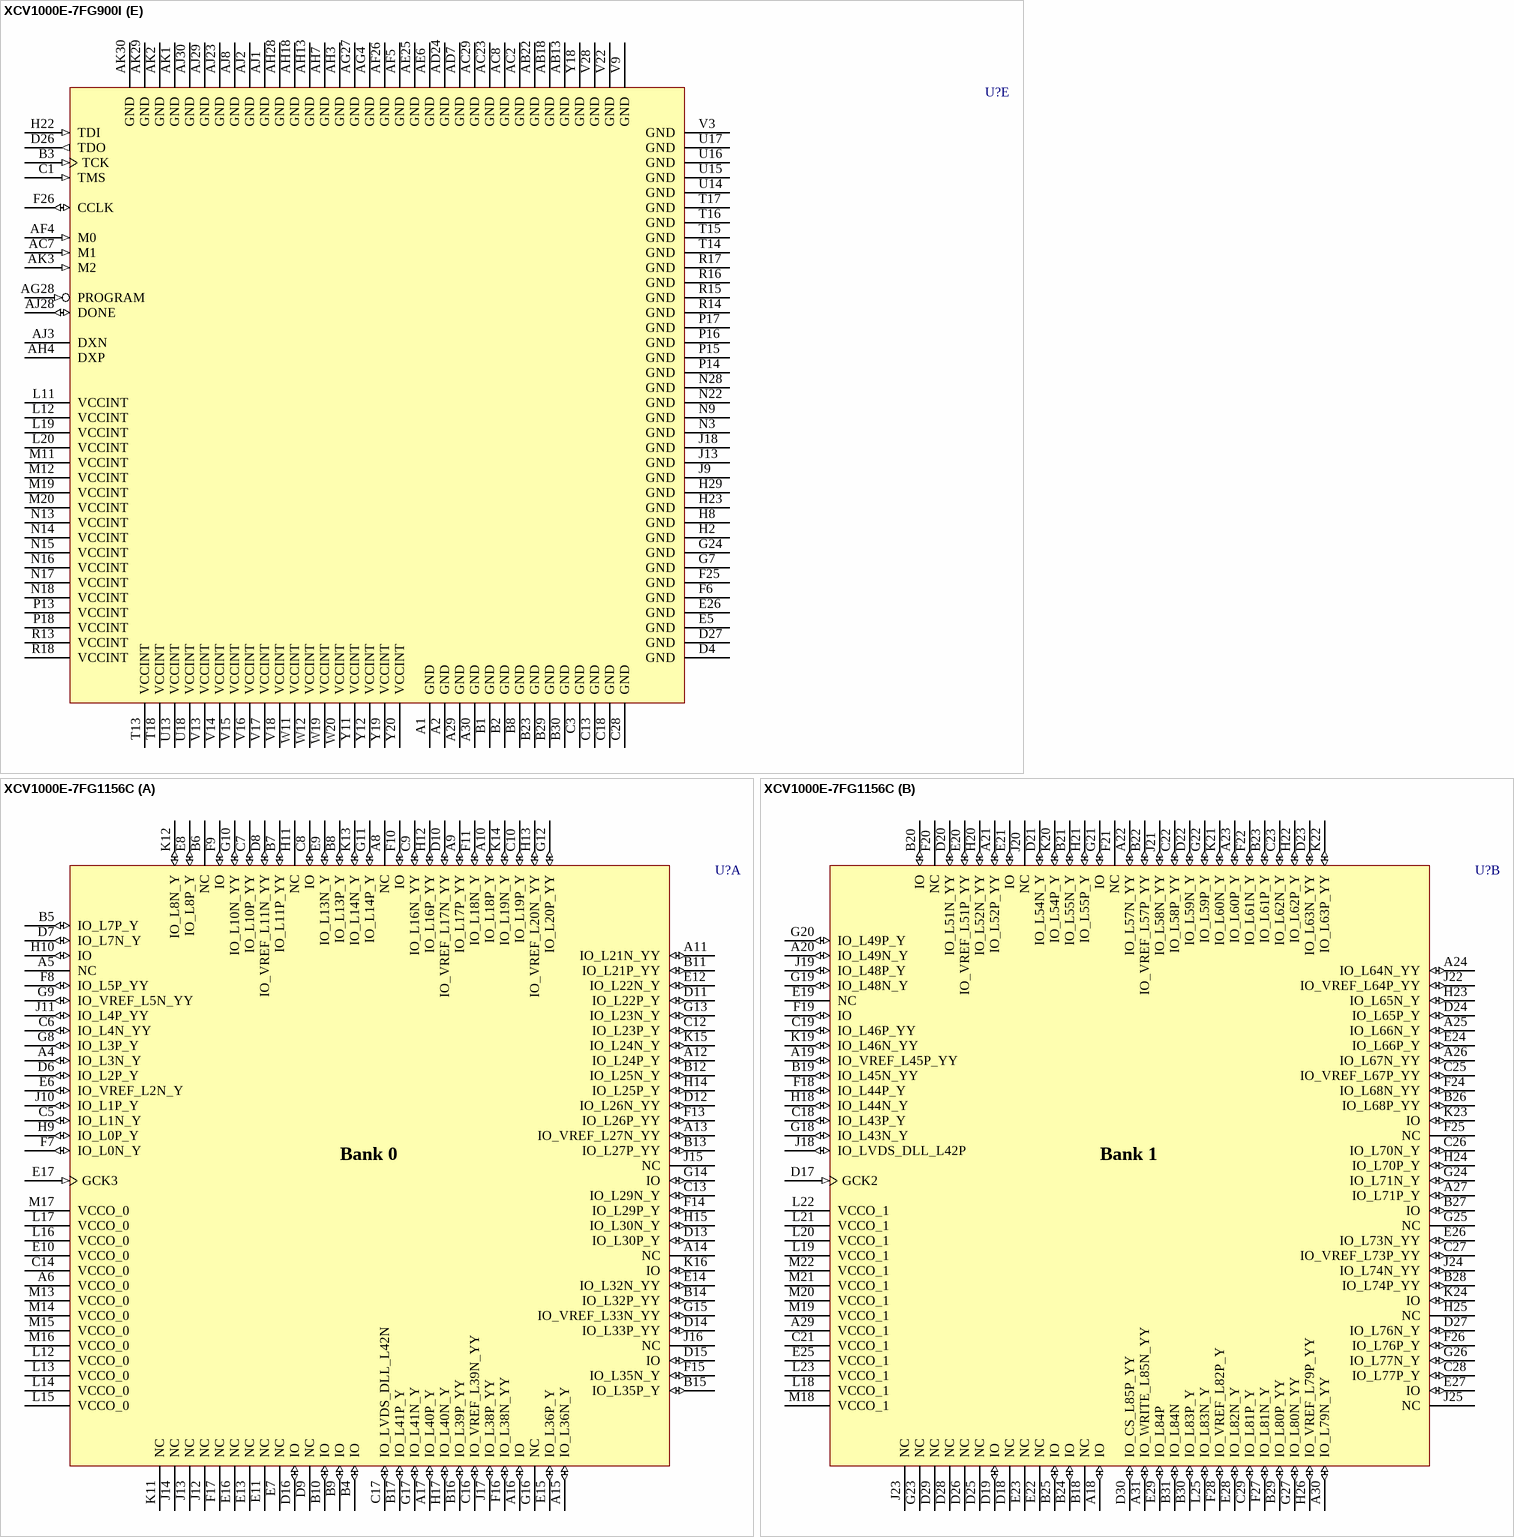
[diagram p384: symbols XCV1000E-7FG900I to XCV1000E-7FG1156C]

## XCV1000E-7FG900I
designator U?
Virtex-E 1.8V FPGA, 900-Ball FBGA, Industrial Grade; PackageDocument: ver1.1, Apr-2001; Note: Solder pads are defined by the copper, i.e. non-soldermask defined (NSMD); Published: 19-Sep-2001; LatestRevisionDate: 17-Jul-2002; LatestRevisionNote: Re-released for DXP Platform.; DatasheetDocument: Mar-2003; PackageReference: FG900; Publisher: Altium Limited; Code_IPC: PBGA 31X31 FE900
footprint FG900 (900-Ball Fine Pitch Ball Grid Array (FG900))
3D model XCV1000E-FG900 (900-Ball Fine Pitch Ball Grid Array (FG900))
signal-integrity model XCV1000E_FG900 (Virtex-E)
part A pins: A3 IO_VREF_L2N_Y (io), A4 IO_L4N_YY (io), A5 IO_L6N_Y (io), A6 IO_VREF_L9N_YY (io), A7 IO (io), A8 IO_VREF_L13N_YY (io), A9 IO_VREF_L16P (io), A10 IO_VREF_L23N_YY (io), A11 IO_L24P_Y (io), A12 IO_L26N_YY (io), A13 IO (io), A14 IO_L30N_YY (io), A15 IO_LVDS_DLL_L34N (io), A16 IO_L36N_YY (io), A17 IO_L39N_Y (io), A18 IO_VREF_L41P_YY (io), A19 IO_L42P_YY (io), A20 IO_L47P_Y (io), A21 IO_L51P_YY (io), A22 IO_VREF_L52P_YY (io), A23 IO_L57P_Y (io), A24 IO_L58N_Y (io), A25 IO (io), A26 IO_L62P_Y (io), A27 IO_L67N_Y (io), A28 IO_L68P_YY (io), B4 IO_L3N_Y (io), B5 IO_L5P_YY (io), B6 VCCO_0 (power), B7 IO_L10P_Y (io), B9 IO_L15N_YY (io), B10 IO_L17P (io), B11 IO_L21N_Y (io), B12 IO_L25P_Y (io), B13 IO_L27P_YY (io), B14 IO_L29P_Y (io), B15 IO_L32N (io), B16 IO_L35N_YY (io), B17 IO (io), B18 IO (io), B19 IO_L43N_Y (io), B20 IO_L46N_YY (io), B21 IO_L50N_YY (io), B22 IO_L53P_YY (io), B24 IO_VREF_L59P_YY (io), B25 VCCO_1 (power), B26 IO_L63N_YY (io), B27 IO_L66N_Y (io), B28 IO_L68N_YY (io), C4 IO_L0N_YY (io), C5 IO (io), C6 IO (io), C7 IO_L10N_Y (io), C8 IO_L11N_Y (io), C9 IO_L14P (io), C10 IO_L18P_YY (io), C11 IO_L22P_YY (io), C12 VCCO_0 (power), C14 IO (io), C15 GCK3 (in), C16 IO_L37N_YY (io), C17 IO_L40P_Y (io), C19 VCCO_1 (power), C20 IO_L48P_Y (io), C21 IO_L52N_YY (io), C22 IO_VREF_L55P_YY (io), C23 IO (io), C24 IO_L59N_YY (io), C25 IO_L61P_Y (io), C26 IO_L65N_Y (io), C27 IO_CS_L69P_YY (io), D5 IO_L1N_Y (io), D6 IO_L4P_YY (io), D7 IO_L7N_Y (io), D8 NC, D9 IO_L14N (io), D10 IO (io), D11 IO_L20P_Y (io), D12 IO_L23P_YY (io), D13 IO (io), D14 IO_L29N_Y (io), D15 IO_L33P_YY (io), D16 IO (io), D17 NC, D18 IO_L42N_YY (io), D19 IO_L44N_Y (io), D20 IO_L47N_Y (io), D21 IO_L50P_YY (io), D22 IO_L54P_YY (io), D23 IO (io), D24 IO_L62N_Y (io), D25 IO_L64N_YY (io), E6 IO (io), E7 IO_VREF_L5N_YY (io), E8 IO_L8P_YY (io), E9 NC, E10 IO_L16N (io), E11 IO_L20N_Y (io), E12 IO_L24N_Y (io), E13 IO_L28P_Y (io), E14 NC, E15 GCK2 (in), E16 IO_LVDS_DLL_L34P (io), E17 IO_L39P_Y (io), E18 IO_L41N_YY (io), E19 IO (io), E20 IO_L49P_Y (io), E21 IO_L54N_YY (io), E22 IO_L56P_YY (io), E23 IO_L61N_Y (io), E24 NC, F7 IO_L0P_YY (io), F8 IO_L6P_Y (io), F9 IO (io), F10 IO_L12P_YY (io), F11 IO_L19P_Y (io), F12 IO_L22N_YY (io), F13 IO_VREF_L27N_YY (io), F14 NC, F15 IO_L33N_YY (io), F16 IO_L35P_YY (io), F17 IO_L40N_Y (io), F18 IO_L45N_YY (io), F19 IO_VREF_L45P_YY (io), F20 IO_L51N_YY (io), F21 IO_L55N_YY (io), F22 IO (io), F23 IO_L65P_Y (io), F24 IO_L67P_Y (io), G8 IO_L1P_Y (io), G9 IO_L8N_YY (io), G10 IO_L12N_YY (io), G11 IO_L17N (io), G12 IO_L21P_Y (io), G13 IO_L25N_Y (io), G14 IO_L28N_Y (io), G15 IO (io), G16 IO_L38P_YY (io), G17 NC, G18 IO_L43P_Y (io), G19 IO_L48N_Y (io), G20 IO (io), G21 IO_L57N_Y (io), G22 IO_L60P_YY (io), G23 IO_VREF_L66P_Y (io), H9 IO_L2P_Y (io), H10 IO_L11P_Y (io), H11 IO_L13P_YY (io), H12 IO_L18N_YY (io), H13 IO_L19N_Y (io), H14 VCCO_0 (power), H15 IO_L32P (io), H16 IO_L36P_YY (io), H17 VCCO_1 (power), H18 IO_L44P_Y (io), H19 IO_L53N_YY (io), H20 IO_L56N_YY (io), H21 IO_L60N_YY (io), J10 IO_L3P_Y (io), J11 IO_L9P_YY (io), J12 IO_L15P_YY (io), J14 IO_L30P_YY (io), J15 IO_L31P_YY (io), J16 IO (io), J17 IO (io), J19 NC, J20 NC, J21 IO_L64P_YY (io), K11 NC, K12 IO (io), K13 IO_L26P_YY (io), K14 IO_VREF_L31N_YY (io), K15 IO_VREF_L37P_YY (io), K16 IO_L38N_YY (io), K17 IO_L46P_YY (io), K18 IO_L49N_Y (io), K19 IO_L58P_Y (io), K20 IO_VREF_L63P_YY (io), K21 IO_WRITE_L69N_YY (io), L13 IO (io), L14 VCCO_0 (power), L15 VCCO_0 (power), L16 VCCO_1 (power), L17 VCCO_1 (power), L18 IO (io), M13 VCCO_0 (power), M14 VCCO_0 (power), M15 VCCO_0 (power), M16 VCCO_1 (power), M17 VCCO_1 (power), M18 VCCO_1 (power), N11 IO_L7P_Y (io)
part B pins: AA22 IO_INIT_L141N_YY (io), AA23 IO (io), AA24 IO_L129N (io), AA25 IO_L128N_YY (io), AA26 IO (io), AA27 IO_L125N_YY (io), AA28 IO_VREF_L124N_YY (io), AA29 IO_L121P (io), AA30 IO_L120P_YY (io), AB23 IO_L136P_YY (io), AB24 IO_VREF_L135N (io), AB25 IO_L132N (io), AB26 IO_L130P_YY (io), AB27 IO (io), AB28 IO_VREF_L127N_YY (io), AB29 IO (io), AB30 IO_D5_L123N_YY (io), AC24 IO_L139N (io), AC25 IO_L137N_Y (io), AC26 IO_L133P_YY (io), AC27 IO_VREF_L131N_YY (io), AC28 NC, AC30 IO_L128P_YY (io), AD25 IO_L140N (io), AD26 IO (io), AD27 IO_L134P_YY (io), AD28 IO_L132P (io), AD29 NC, AD30 IO_L130N_YY (io), AE26 IO_L138P_YY (io), AE27 NC, AE28 IO_L136N_YY (io), AE29 VCCO_3 (power), AE30 IO_L133N_YY (io), AF28 IO_L140P (io), AF29 IO_L135P (io), AF30 IO_L134N_YY (io), AG29 IO_VREF_L138N_YY (io), AG30 IO_L137P_Y (io), AH29 IO_D7_L141P_YY (io), AH30 IO_L139P (io), C29 IO_L71P (io), C30 IO_L73N_YY (io), D28 IO_L71N (io), D29 NC, D30 IO_L75P_YY (io), E25 IO_L72N_Y (io), E27 IO_DIN_D0_L70N_YY (io), E28 IO_VREF_L73P_YY (io), E29 IO_L78N_YY (io), E30 IO_L77N_YY (io), F27 IO_L74N_Y (io), F28 IO_L76N_Y (io), F29 VCCO_2 (power), F30 IO_VREF_L80P_YY (io), G25 IO_L72P_Y (io), G26 IO (io), G27 IO_L78P_YY (io), G28 IO_L77P_YY (io), G29 IO_L81N_YY (io), G30 IO_L82P (io), H24 IO (io), H25 IO (io), H26 IO_L79N (io), H27 IO_L81P_YY (io), H28 NC, H30 IO_VREF_L84P_YY (io), J22 IO_DOUT_BUSY_L70P_YY (io), J23 IO_L75N_YY (io), J24 IO_L83P_YY (io), J25 IO (io), J26 IO_L83N_YY (io), J27 NC, J28 IO_L85N_YY (io), J29 IO_L86P_YY (io), J30 IO_VREF_L87N_YY (io), K22 IO_L74P_Y (io), K23 IO_L79P (io), K24 IO_L86N_YY (io), K25 IO_L90N (io), K26 IO_L85P_YY (io), K27 IO_L87P_YY (io), K28 IO_L89P_YY (io), K29 IO_D2_L88N (io), K30 IO (io), L21 IO_VREF_L76P_Y (io), L22 IO_L80N_YY (io), L23 IO_L84N_YY (io), L24 IO_L91P_YY (io), L25 IO_L89N_YY (io), L26 IO_L93P_YY (io), L27 IO_L91N_YY (io), L28 IO_L93N_YY (io), L29 IO_L92P_Y (io), L30 IO_VREF_L94P (io), M21 IO_L82N (io), M22 IO_D1_L88P (io), M23 IO_L92N_Y (io), M24 IO (io), M25 IO (io), M26 IO_L95P_YY (io), M27 IO_L94N (io), M28 VCCO_2 (power), M29 IO_L95N_YY (io), M30 IO_L96N_YY (io), N19 VCCO_2 (power), N20 IO (io), N21 IO_L90P (io), N23 IO (io), N24 IO_L100N (io), N25 IO_L97P (io), N26 IO_L99P_YY (io), N27 IO_L97N (io), N29 IO_L96P_YY (io), N30 IO_VREF_L98P_YY (io), P19 VCCO_2 (power), P20 VCCO_2 (power), P21 IO_D3_L98N_YY (io), P22 IO_L101P_YY (io), P23 VCCO_2 (power), P24 IO_L105P_YY (io), P25 IO_VREF_L102P_YY (io), P26 NC, P27 NC, P28 IO_L99N_YY (io), P29 IO_L100P (io), P30 IO (io), R19 VCCO_2 (power), R20 VCCO_2 (power), R21 IO_L103P_YY (io), R22 IO_L107P_YY (io), R23 IO_L108P_YY (io), R24 IO_L106P (io), R25 IO_L104P_YY (io), R26 IO_L101N_YY (io), R27 IO_L105N_YY (io), R28 IO_L103N_YY (io), R29 IO_L102N_YY (io), R30 IO (io), T19 VCCO_3 (power), T20 VCCO_3 (power), T21 IO_L109P_YY (io), T22 IO (io), T23 IO_L111P (io), T24 IO (io), T25 IO_VREF_L109N_YY (io), T26 IO (io), T27 IO_L107N_YY (io), T28 IO_L108N_YY (io), T29 IO (io), T30 IO_L104N_YY (io), U19 VCCO_3 (power), U20 VCCO_3 (power), U21 IO_L115P_YY (io), U22 IO_L114N (io), U23 VCCO_3 (power), U24 IO_D4_L113P_YY (io), U25 IO_L112P_YY (io), U26 NC, U27 IO_L111N (io), U28 IO_L110P_YY (io), U29 IO_L106N (io), U30 IO_L110N_YY (io), V19 VCCO_3 (power), V20 IO_L121N (io), V21 IO_D6_L124P_YY (io), V23 IO (io), V24 IO_L119P_Y (io), V25 IO (io), V26 IO_L116P_YY (io), V27 IO_L112N_YY (io), V29 IO_VREF_L113N_YY (io), V30 NC, W21 IO_L129P (io), W22 IO_L126P_YY (io), W23 IO_L122N (io), W24 IO_L120N_YY (io), W25 IO_L118P_YY (io), W26 IO_L117P (io), W27 IO_L116N_YY (io), W28 VCCO_3 (power), W29 IO_L115N_YY (io), W30 IO_L114P (io), Y21 IO (io), Y22 IO_L131P_YY (io), Y23 IO_L126N_YY (io), Y24 IO_L127P_YY (io), Y25 IO_L125P_YY (io), Y26 IO_L123P_YY (io), Y27 IO_L122P (io), Y28 IO_L119N_Y (io), Y29 IO_VREF_L117N (io), Y30 IO_L118N_YY (io)
part C pins: AA11 IO (io), AA12 IO_L188P_YY (io), AA13 IO_L187N (io), AA14 IO (io), AA15 IO_L180P_YY (io), AA16 IO_L169P_YY (io), AA17 IO_L169N_YY (io), AA18 IO_VREF_L159N (io), AA19 IO_L158P_YY (io), AA20 IO_L149P (io), AA21 IO_L147P_YY (io), AB10 IO_L207P_YY (io), AB11 IO_L200N (io), AB12 IO_L189P_YY (io), AB14 IO_L182P (io), AB15 IO_L179P_YY (io), AB16 IO_L170N_YY (io), AB17 IO_L167N (io), AB19 IO (io), AB20 IO_L153N (io), AB21 IO_VREF_L145P (io), AC9 IO_L209P (io), AC10 IO_L205N (io), AC11 IO_L201P (io), AC12 IO_VREF_L195N_YY (io), AC13 IO_L187P (io), AC14 VCCO_5 (power), AC15 IO_L178P_YY (io), AC16 IO (io), AC17 VCCO_4 (power), AC18 IO_L164P (io), AC19 IO (io), AC20 IO_L154P (io), AC21 IO_L150P (io), AC22 IO_L146P (io), AD8 IO_L208P (io), AD9 IO_L206P_YY (io), AD10 IO_L204N (io), AD11 IO_L196N_YY (io), AD12 IO_L194P_YY (io), AD13 IO_L185N_YY (io), AD14 IO (io), AD15 IO_L175P (io), AD16 IO_L172N (io), AD17 IO_L168N (io), AD18 IO (io), AD19 IO_L161N_YY (io), AD20 IO_L157N (io), AD21 IO (io), AD22 IO_L148N_YY (io), AD23 IO_L144P (io), AE7 NC, AE8 NC, AE9 IO_L197N_YY (io), AE10 IO (io), AE11 IO_L189N_YY (io), AE12 IO_L193P_YY (io), AE13 IO_L186P (io), AE14 IO_L184P_YY (io), AE15 IO (io), AE16 IO_L173P_YY (io), AE17 IO_L173N_YY (io), AE18 IO (io), AE19 IO_L165N_YY (io), AE20 IO_L162P (io), AE21 IO (io), AE22 IO_L155N_YY (io), AE23 IO_L153P (io), AE24 NC, AF6 IO (io), AF7 IO_VREF_L202N_YY (io), AF8 IO_L200P (io), AF9 IO_VREF_L198N_YY (io), AF10 IO (io), AF11 IO_L191N (io), AF12 IO_L186N (io), AF13 IO_L182N (io), AF14 IO_VREF_L180N_YY (io), AF15 IO_L179N_YY (io), AF16 IO_LVDS_DLL_L177P (io), AF17 NC, AF18 NC, AF19 IO_L164N (io), AF20 IO_L163N (io), AF21 IO_L158N_YY (io), AF22 IO_L155P_YY (io), AF23 IO_L152N_YY (io), AF24 IO_L150N (io), AF25 IO_L145N (io), AF27 IO_L142P_YY (io), AG3 IO_L211N_YY (io), AG5 IO_L210P (io), AG6 IO_VREF_L206N_YY (io), AG7 IO_L203P_YY (io), AG8 IO_L201N (io), AG9 IO (io), AG10 IO_L193N_YY (io), AG11 IO_L191P (io), AG12 IO (io), AG13 IO_VREF_L184N_YY (io), AG14 NC, AG15 IO_L178N_YY (io), AG16 IO_L176P_YY (io), AG17 IO_VREF_L174P_YY (io), AG18 IO_L171P (io), AG19 IO_L167P (io), AG20 IO_L163P (io), AG21 IO_L160P (io), AG22 IO_L156N_YY (io), AG23 IO_L154N (io), AG24 IO_L151P_YY (io), AG25 IO_L147N_YY (io), AG26 IO_L143P_YY (io), AH5 IO_L211P_YY (io), AH6 IO_L205P (io), AH8 IO (io), AH9 IO_L199P_YY (io), AH10 IO_L198P_YY (io), AH11 IO_L192P (io), AH12 VCCO_5 (power), AH14 IO_L183P (io), AH15 IO_L181P_YY (io), AH16 IO_LVDS_DLL_L177N (io), AH17 IO_L175N (io), AH19 VCCO_4 (power), AH20 IO_L166N_YY (io), AH21 IO_L161P_YY (io), AH22 IO_L159P (io), AH23 IO (io), AH24 NC, AH25 IO_L149N (io), AH26 IO_L146N (io), AH27 IO_L143N_YY (io), AJ4 IO_VREF_L209N (io), AJ5 IO_L207N_YY (io), AJ6 VCCO_5 (power), AJ7 IO_L204P (io), AJ9 IO_L197P_YY (io), AJ10 IO_L195P_YY (io), AJ11 IO_L192N (io), AJ12 IO_VREF_L188N_YY (io), AJ13 IO (io), AJ14 IO_L183N (io), AJ15 IO (io), AJ16 GCK0 (in), AJ17 IO_L174N_YY (io), AJ18 IO (io), AJ19 IO_L168P (io), AJ20 IO_L165P_YY (io), AJ21 IO_L162N (io), AJ22 IO_VREF_L156P_YY (io), AJ24 IO_VREF_L152P_YY (io), AJ25 VCCO_4 (power), AJ26 IO_VREF_L148P_YY (io), AJ27 IO_L144N (io), AK4 IO_L210N (io), AK5 IO_L208N (io), AK6 NC, AK7 IO_L203N_YY (io), AK8 IO_L202P_YY (io), AK9 IO_L199N_YY (io), AK10 IO_L196P_YY (io), AK11 IO_L194N_YY (io), AK12 IO_L190P (io), AK13 IO_L185P_YY (io), AK14 NC, AK15 IO_L181N_YY (io), AK16 GCK1 (in), AK17 IO_L176N_YY (io), AK18 IO (io), AK19 IO_L172P (io), AK20 IO_L171N (io), AK21 IO_VREF_L170P_YY (io), AK22 IO_VREF_L166P_YY (io), AK23 IO_L160N (io), AK24 IO_L157P (io), AK25 NC, AK26 IO_L151N_YY (io), AK27 IO (io), AK28 IO_L142N_YY (io), W13 VCCO_5 (power), W14 VCCO_5 (power), W15 VCCO_5 (power), W16 VCCO_4 (power), W17 VCCO_4 (power), W18 VCCO_4 (power), Y13 IO_L190N (io), Y14 VCCO_5 (power), Y15 VCCO_5 (power), Y16 VCCO_4 (power), Y17 VCCO_4 (power)
part D pins: AA1 IO_L234N_Y (io), AA2 IO_L231N_YY (io), AA3 IO_L230P (io), AA4 IO (io), AA5 IO_L227N_YY (io), AA6 IO_L232P (io), AA7 IO_L221P (io), AA8 IO_L221N (io), AA9 IO_VREF_L218N (io), AA10 IO_L217P_YY (io), AB1 IO_L228N_YY (io), AB2 IO_VREF_L240N_YY (io), AB3 IO_VREF_L226N_YY (io), AB4 IO_L225P_YY (io), AB5 NC, AB6 IO_L223N_YY (io), AB7 IO (io), AB8 IO_L216N_Y (io), AB9 IO_L214N (io), AC1 IO_VREF_L229P_YY (io), AC3 NC, AC4 IO_L223P_YY (io), AC5 IO (io), AC6 IO_L212P_YY (io), AD1 IO (io), AD2 IO_L219P_YY (io), AD3 IO_L220N_YY (io), AD4 IO_L218P (io), AD5 IO_L219N_YY (io), AD6 IO_L216P_Y (io), AE1 IO_L224N (io), AE2 VCCO_6 (power), AE3 IO_VREF_L215N_YY (io), AE4 IO_L214P (io), AE5 NC, AF1 IO_VREF_L222N_YY (io), AF2 IO_L220P_YY (io), AF3 IO_L212N_YY (io), AG1 IO_L217N_YY (io), AG2 IO_L213P (io), AH1 IO_L215P_YY (io), AH2 IO_L213N (io), C2 IO_VREF_L280P_YY (io), D1 IO_L279N_Y (io), D2 IO_L281N (io), D3 IO_L282N_YY (io), E1 IO_L275P_YY (io), E2 IO_L276P_YY (io), E3 IO (io), E4 IO_L277N (io), F1 IO (io), F2 VCCO_7 (power), F3 IO_L274N (io), F4 IO_L278P_YY (io), F5 IO_L281P (io), G1 NC, G2 IO_L272P_YY (io), G3 IO_L275N_YY (io), G4 NC, G5 IO_VREF_L273P_YY (io), G6 IO_L280N_YY (io), H1 IO_L270N_YY (io), H3 NC, H4 IO_VREF_L269P_YY (io), H5 IO_L272N_YY (io), H6 IO_L276N_YY (io), H7 IO_L279P_Y (io), J1 IO (io), J2 IO_L271P (io), J3 IO (io), J4 IO (io), J5 IO_L268P_YY (io), J6 IO (io), J7 IO_L271N (io), J8 IO_L278N_YY (io), K1 IO_L265P_YY (io), K2 IO_L263N (io), K3 IO_VREF_L266P_YY (io), K4 IO_L267P_YY (io), K5 IO_L265N_YY (io), K6 IO_L269N_YY (io), K7 IO_L270P_YY (io), K8 IO_L274P (io), K9 IO_VREF_L277P (io), K10 IO_L282P_YY (io), L1 IO_L262N_YY (io), L2 IO_L260P_YY (io), L3 IO_L264N (io), L4 IO_L260N_YY (io), L5 IO_L261P_Y (io), L6 IO_L266N_YY (io), L7 IO_L267N_YY (io), L8 IO_L268N_YY (io), L9 IO_L273N_YY (io), L10 IO (io), M1 IO_VREF_L259P (io), M2 IO_L259N (io), M3 VCCO_7 (power), M4 IO_L258N_YY (io), M5 IO_L258P_YY (io), M6 IO_L256N (io), M7 IO_L261N_Y (io), M8 IO_L262P_YY (io), M9 IO_L263P (io), M10 IO_L264P (io), N1 IO_L257P_YY (io), N2 IO (io), N4 IO_L254N_YY (io), N5 IO_L257N_YY (io), N6 IO_L256P (io), N7 IO_L255N_YY (io), N8 IO (io), N10 IO (io), N12 VCCO_7 (power), P1 IO_VREF_L255P_YY (io), P2 IO_L252P_YY (io), P3 NC, P4 IO_L253P (io), P5 IO_L252N_YY (io), P6 IO_VREF_L251P_YY (io), P7 IO_L253N (io), P8 VCCO_7 (power), P9 IO (io), P10 IO_L251N_YY (io), P11 VCCO_7 (power), P12 VCCO_7 (power), R1 NC, R2 IO_L254P_YY (io), R3 IO_L250P_YY (io), R4 IO_L249P_YY (io), R5 IO_L248N_YY (io), R6 IO_L248P_YY (io), R7 IO_L250N_YY (io), R8 IO_L249N_YY (io), R9 IO_L245N_YY (io), R10 IO_L247P (io), R11 VCCO_7 (power), R12 VCCO_7 (power), T1 IO_L247N (io), T2 IO (io), T3 IO (io), T4 IO_L246N_YY (io), T5 IO_VREF_L244N_YY (io), T6 IO_L245P_YY (io), T7 IO_L243N_YY (io), T8 IO_L240P_YY (io), T9 IO_L242P (io), T10 IO (io), T11 VCCO_6 (power), T12 VCCO_6 (power), U1 IO (io), U2 IO_L246P_YY (io), U3 IO_L243P_YY (io), U4 NC, U5 IO_L241N_YY (io), U6 IO (io), U7 IO (io), U8 VCCO_6 (power), U9 IO_L239N (io), U10 IO_L231P_YY (io), U11 VCCO_6 (power), U12 VCCO_6 (power), V1 IO (io), V2 IO_L244P_YY (io), V4 IO_L239P (io), V5 NC, V6 IO_L238N_YY (io), V7 IO_L234P_Y (io), V8 IO (io), V10 IO_L228P_YY (io), V11 IO_L230N (io), V12 VCCO_6 (power), W1 IO_L241P_YY (io), W2 IO_L238P_YY (io), W3 VCCO_6 (power), W4 IO_L237N_YY (io), W5 IO_L236P (io), W6 IO_L237P_YY (io), W7 IO_L232N (io), W8 IO_L224P (io), W9 IO_L226P_YY (io), W10 IO_L227P_YY (io), Y1 IO_L242N (io), Y2 IO_L235P_YY (io), Y3 IO_L235N_YY (io), Y4 IO_L233P_YY (io), Y5 IO_VREF_L236N (io), Y6 IO_L233N_YY (io), Y7 IO_L229N_YY (io), Y8 IO_L225N_YY (io), Y9 IO_L222P_YY (io), Y10 IO (io)
part E pins: A1 GND (power), A2 GND (power), A29 GND (power), A30 GND (power), AB13 GND (power), AB18 GND (power), AB22 GND (power), AC2 GND (power), AC7 M1 (in), AC8 GND (power), AC23 GND (power), AC29 GND (power), AD7 GND (power), AD24 GND (power), AE6 GND (power), AE25 GND (power), AF4 M0 (in), AF5 GND (power), AF26 GND (power), AG4 GND (power), AG27 GND (power), AG28 PROGRAM (in), AH3 GND (power), AH4 DXP, AH7 GND (power), AH13 GND (power), AH18 GND (power), AH28 GND (power), AJ1 GND (power), AJ2 GND (power), AJ3 DXN, AJ8 GND (power), AJ23 GND (power), AJ28 DONE (io), AJ29 GND (power), AJ30 GND (power), AK1 GND (power), AK2 GND (power), AK3 M2 (in), AK29 GND (power), AK30 GND (power), B1 GND (power), B2 GND (power), B3 TCK (in), B8 GND (power), B23 GND (power), B29 GND (power), B30 GND (power), C1 TMS (in), C3 GND (power), C13 GND (power), C18 GND (power), C28 GND (power), D4 GND (power), D26 TDO (out), D27 GND (power), E5 GND (power), E26 GND (power), F6 GND (power), F25 GND (power), F26 CCLK (io), G7 GND (power), G24 GND (power), H2 GND (power), H8 GND (power), H22 TDI (in), H23 GND (power), H29 GND (power), J9 GND (power), J13 GND (power), J18 GND (power), L11 VCCINT (power), L12 VCCINT (power), L19 VCCINT (power), L20 VCCINT (power), M11 VCCINT (power), M12 VCCINT (power), M19 VCCINT (power), M20 VCCINT (power), N3 GND (power), N9 GND (power), N13 VCCINT (power), N14 VCCINT (power), N15 VCCINT (power), N16 VCCINT (power), N17 VCCINT (power), N18 VCCINT (power), N22 GND (power), N28 GND (power), P13 VCCINT (power), P14 GND (power), P15 GND (power), P16 GND (power), P17 GND (power), P18 VCCINT (power), R13 VCCINT (power), R14 GND (power), R15 GND (power), R16 GND (power), R17 GND (power), R18 VCCINT (power), T13 VCCINT (power), T14 GND (power), T15 GND (power), T16 GND (power), T17 GND (power), T18 VCCINT (power), U13 VCCINT (power), U14 GND (power), U15 GND (power), U16 GND (power), U17 GND (power), U18 VCCINT (power), V3 GND (power), V9 GND (power), V13 VCCINT (power), V14 VCCINT (power), V15 VCCINT (power), V16 VCCINT (power), V17 VCCINT (power), V18 VCCINT (power), V22 GND (power), V28 GND (power), W11 VCCINT (power), W12 VCCINT (power), W19 VCCINT (power), W20 VCCINT (power), Y11 VCCINT (power), Y12 VCCINT (power), Y18 GND (power), Y19 VCCINT (power), Y20 VCCINT (power)
part A text: BANK 0; BANK 1
part B text: BANK 2; BANK 3
part C text: BANK 4; BANK 5
part D text: BANK 6; BANK 7

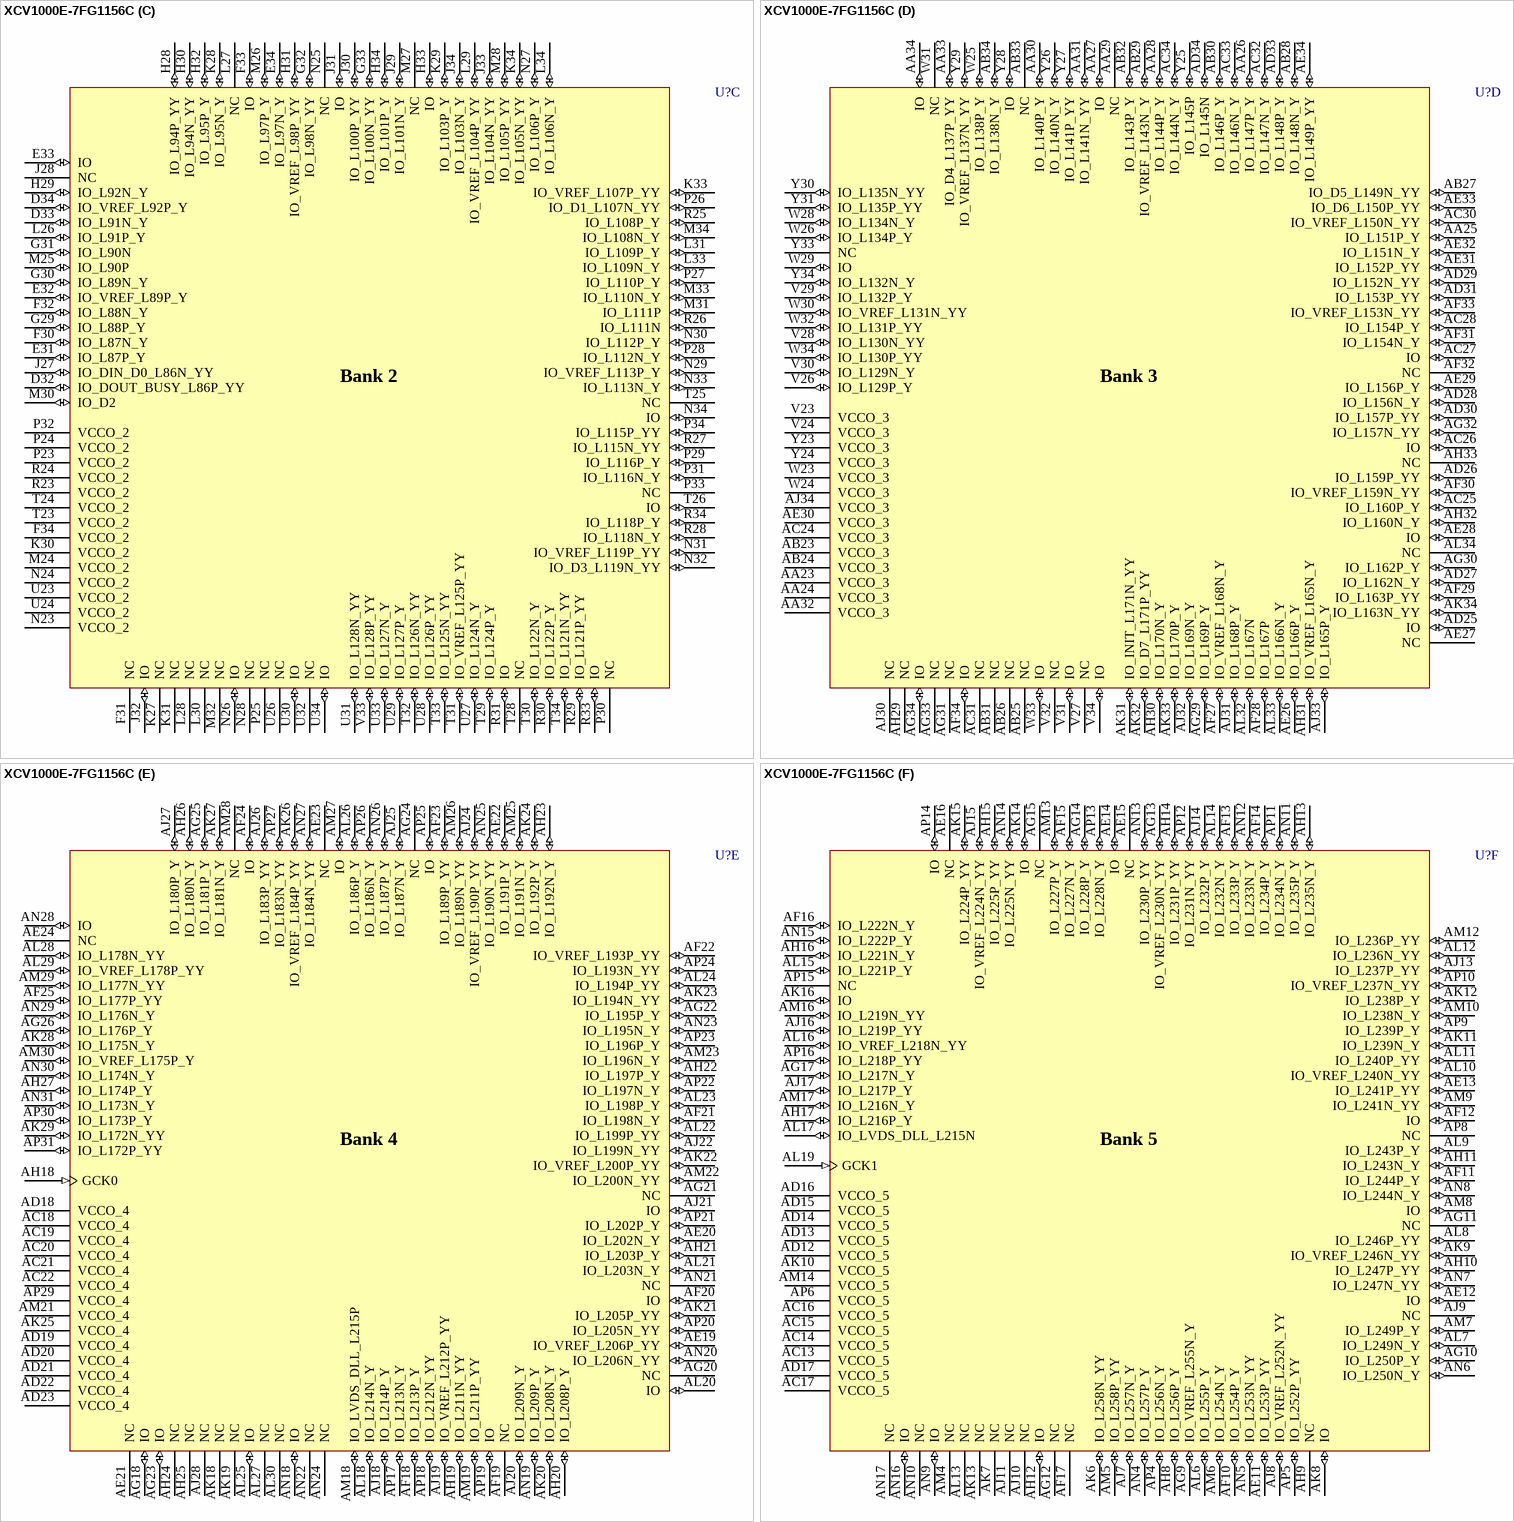
[diagram p385: symbol XCV1000E-7FG1156C]

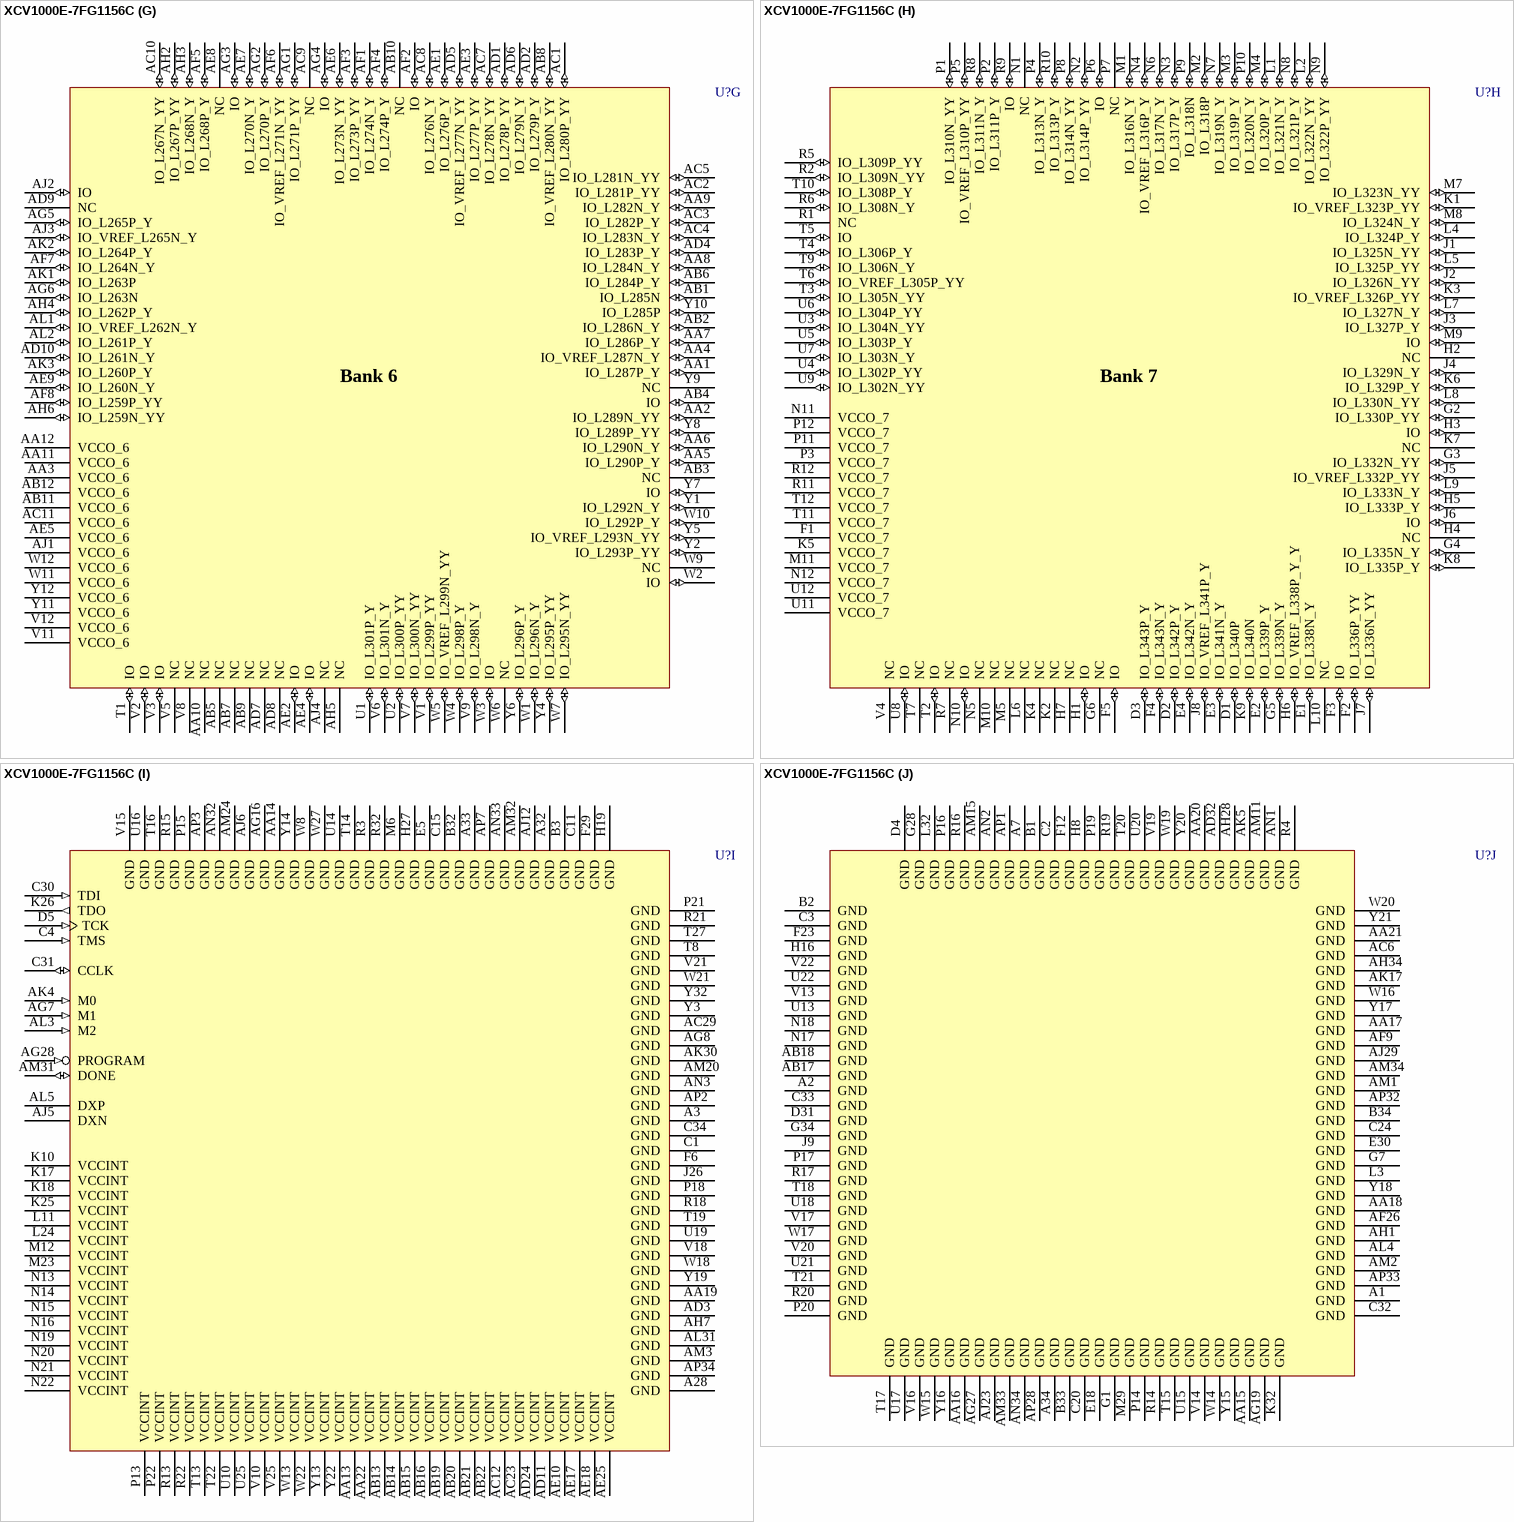
[diagram p386: symbol XCV1000E-7FG1156C]